# EAGLE library part XC3SE500-FG320 (library Xilinx)
* Xilinx Spartan 3E 500 die in a FG320 package
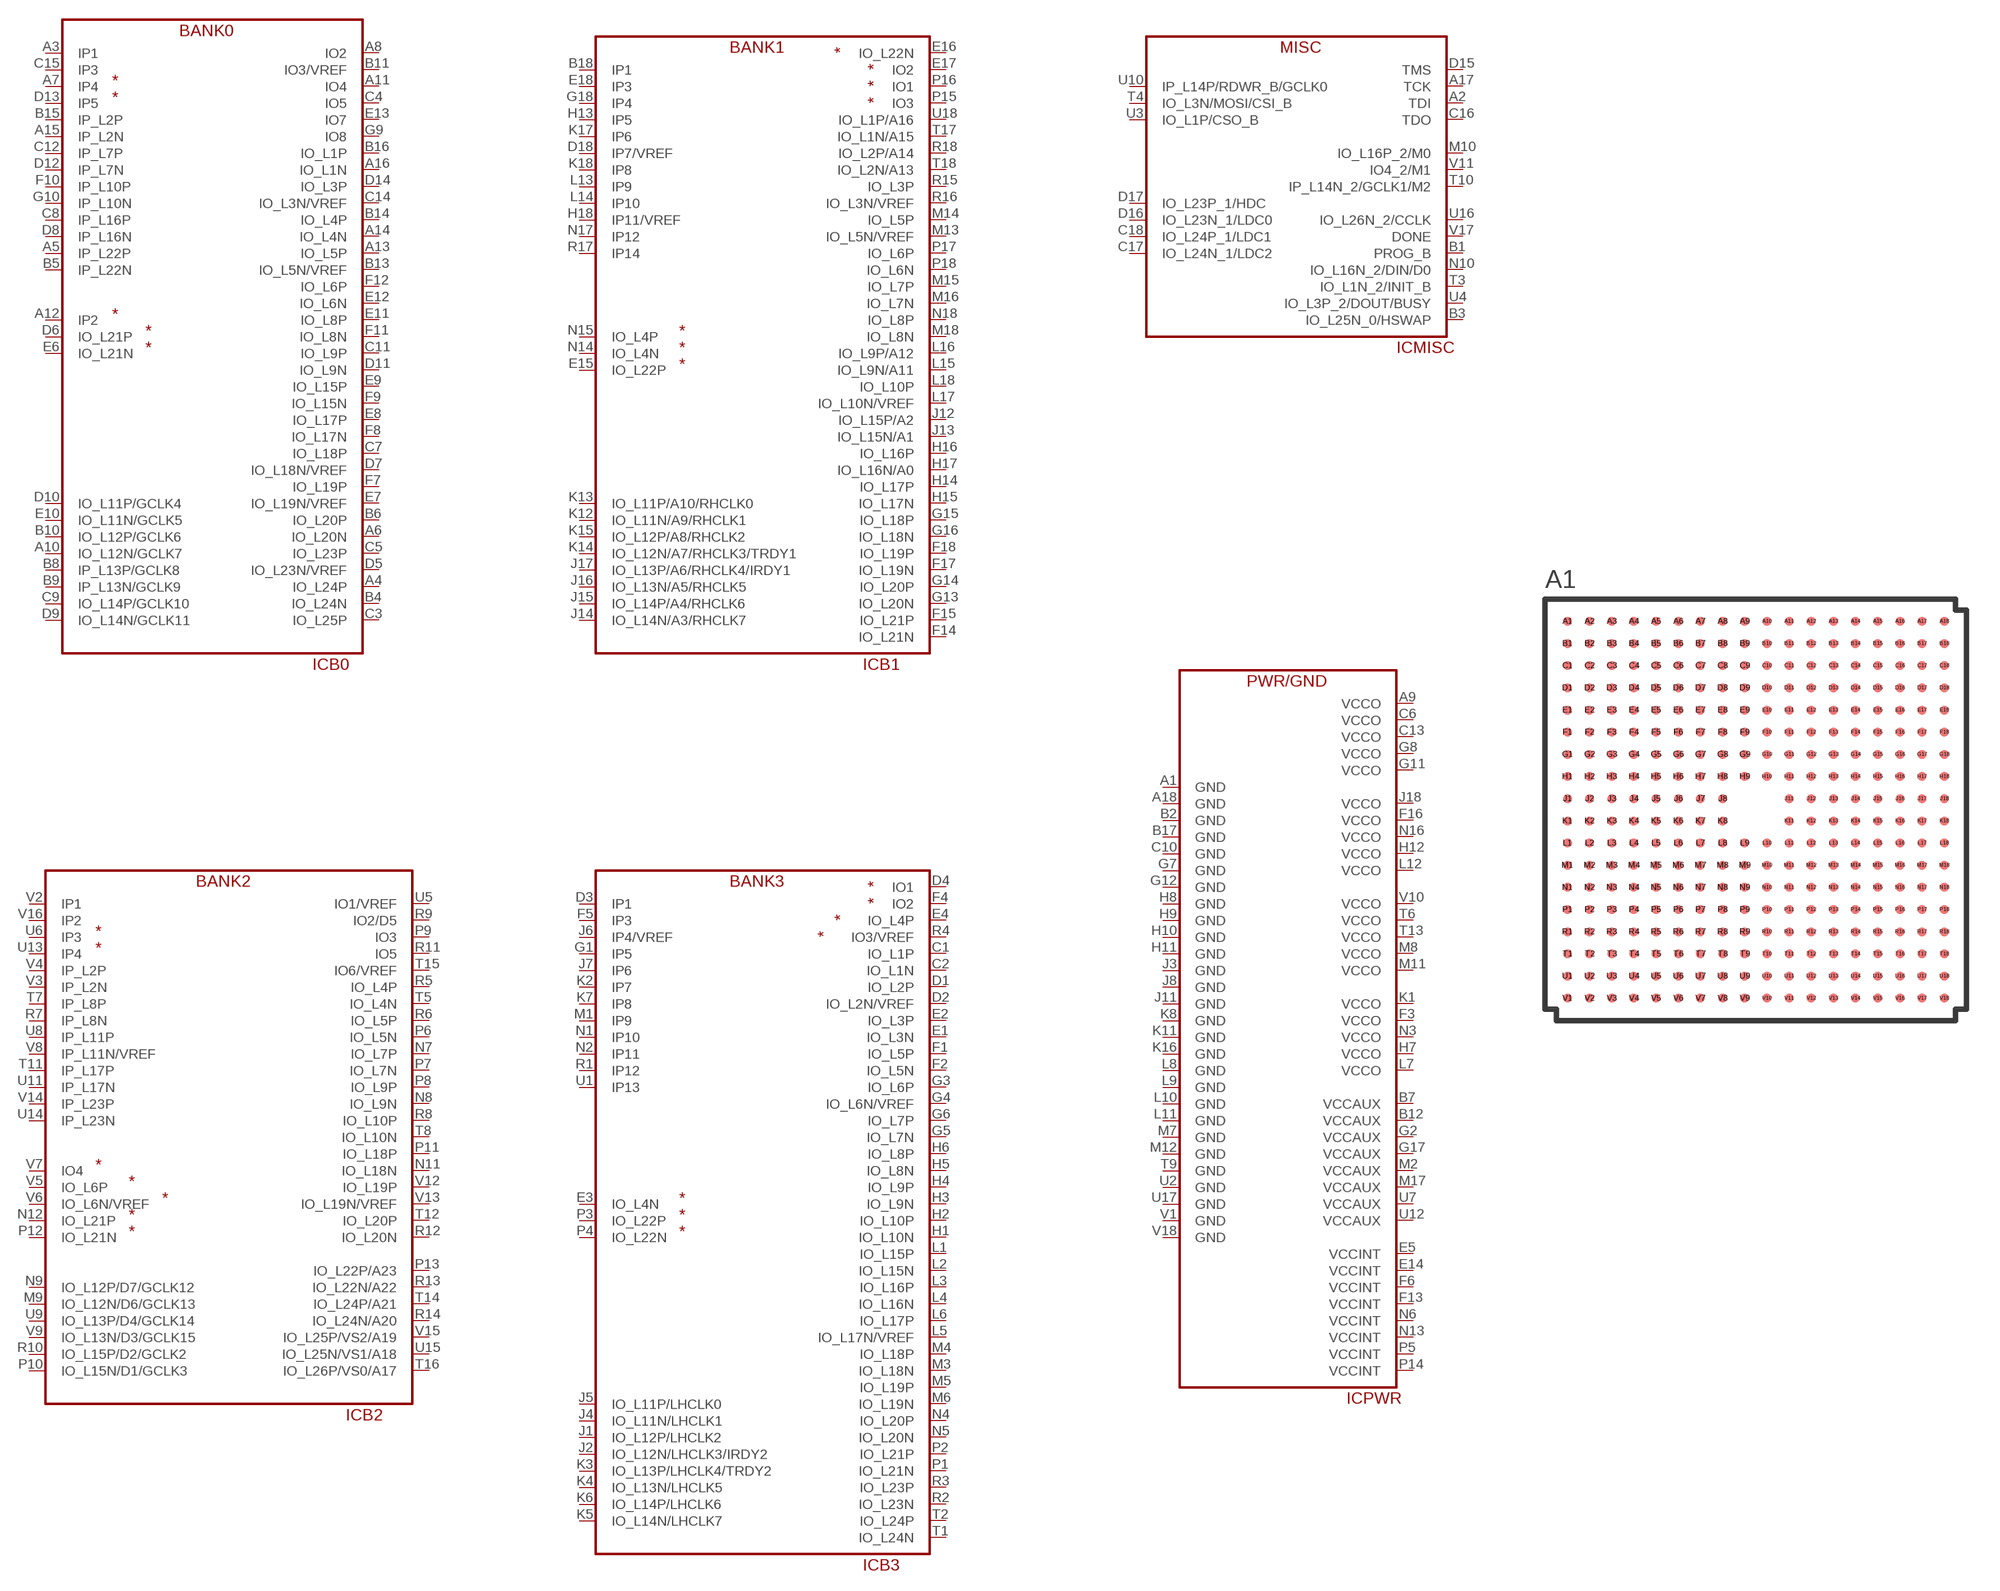
[diagram p35: symbol with the pads of FG320; footprint FG320]

Designator prefix IC; gates B0=XC3S500E/FG320-B0 B1=XC3S500E/FG320-B1 B2=XC3S500E/FG320-B2 B3=XC3S500E/FG320-B3 MISC=XC3S500E/FG320-MISC PWR=XC3S500E/FG320-PWR

## XC3SE500-FG320  [FG320]
A1  PWR:GND  pwr
A2  MISC:TDI
A3  B0:IP1  in
A4  B0:IO_L24P
A5  B0:IP_L22P  in
A6  B0:IO_L20N
A7  B0:IP4  in
A8  B0:IO2
A9  PWR:VCCO  pwr
A10  B0:IO_L12N/GCLK7
A11  B0:IO4
A12  B0:IP2  in
A13  B0:IO_L5P
A14  B0:IO_L4N
A15  B0:IP_L2N  in
A16  B0:IO_L1N
A17  MISC:TCK
A18  PWR:GND  pwr
B1  MISC:PROG_B
B2  PWR:GND  pwr
B3  MISC:IO_L25N_0/HSWAP
B4  B0:IO_L24N
B5  B0:IP_L22N  in
B6  B0:IO_L20P
B7  PWR:VCCAUX  pwr
B8  B0:IP_L13P/GCLK8  in
B9  B0:IP_L13N/GCLK9  in
B10  B0:IO_L12P/GCLK6
B11  B0:IO3/VREF
B12  PWR:VCCAUX  pwr
B13  B0:IO_L5N/VREF
B14  B0:IO_L4P
B15  B0:IP_L2P  in
B16  B0:IO_L1P
B17  PWR:GND  pwr
B18  B1:IP1  in
C1  B3:IO_L1P
C2  B3:IO_L1N
C3  B0:IO_L25P
C4  B0:IO5
C5  B0:IO_L23P
C6  PWR:VCCO  pwr
C7  B0:IO_L18P
C8  B0:IP_L16P  in
C9  B0:IO_L14P/GCLK10
C10  PWR:GND  pwr
C11  B0:IO_L9P
C12  B0:IP_L7P  in
C13  PWR:VCCO  pwr
C14  B0:IO_L3N/VREF
C15  B0:IP3  in
C16  MISC:TDO
C17  MISC:IO_L24N_1/LDC2
C18  MISC:IO_L24P_1/LDC1
D1  B3:IO_L2P
D2  B3:IO_L2N/VREF
D3  B3:IP1  in
D4  B3:IO1
D5  B0:IO_L23N/VREF
D6  B0:IO_L21P
D7  B0:IO_L18N/VREF
D8  B0:IP_L16N  in
D9  B0:IO_L14N/GCLK11
D10  B0:IO_L11P/GCLK4
D11  B0:IO_L9N
D12  B0:IP_L7N  in
D13  B0:IP5  in
D14  B0:IO_L3P
D15  MISC:TMS
D16  MISC:IO_L23N_1/LDC0
D17  MISC:IO_L23P_1/HDC
D18  B1:IP7/VREF  in
E1  B3:IO_L3N
E2  B3:IO_L3P
E3  B3:IO_L4N
E4  B3:IO_L4P
E5  PWR:VCCINT  pwr
E6  B0:IO_L21N
E7  B0:IO_L19N/VREF
E8  B0:IO_L17P
E9  B0:IO_L15P
E10  B0:IO_L11N/GCLK5
E11  B0:IO_L8P
E12  B0:IO_L6N
E13  B0:IO7
E14  PWR:VCCINT  pwr
E15  B1:IO_L22P
E16  B1:IO_L22N
E17  B1:IO2
E18  B1:IP3  in
F1  B3:IO_L5P
F2  B3:IO_L5N
F3  PWR:VCCO  pwr
F4  B3:IO2  in
F5  B3:IP3  in
F6  PWR:VCCINT  pwr
F7  B0:IO_L19P
F8  B0:IO_L17N
F9  B0:IO_L15N
F10  B0:IP_L10P  in
F11  B0:IO_L8N
F12  B0:IO_L6P
F13  PWR:VCCINT  pwr
F14  B1:IO_L21N
F15  B1:IO_L21P
F16  PWR:VCCO  pwr
F17  B1:IO_L19N
F18  B1:IO_L19P
G1  B3:IP5  in
G2  PWR:VCCAUX  pwr
G3  B3:IO_L6P
G4  B3:IO_L6N/VREF
G5  B3:IO_L7N
G6  B3:IO_L7P
G7  PWR:GND  pwr
G8  PWR:VCCO  pwr
G9  B0:IO8
G10  B0:IP_L10N  in
G11  PWR:VCCO  pwr
G12  PWR:GND  pwr
G13  B1:IO_L20N
G14  B1:IO_L20P
G15  B1:IO_L18P
G16  B1:IO_L18N
G17  PWR:VCCAUX  pwr
G18  B1:IP4  in
H1  B3:IO_L10N
H2  B3:IO_L10P
H3  B3:IO_L9N
H4  B3:IO_L9P
H5  B3:IO_L8N
H6  B3:IO_L8P
H7  PWR:VCCO  pwr
H8  PWR:GND  pwr
H9  PWR:GND  pwr
H10  PWR:GND  pwr
H11  PWR:GND  pwr
H12  PWR:VCCO  pwr
H13  B1:IP5  in
H14  B1:IO_L17P
H15  B1:IO_L17N
H16  B1:IO_L16P
H17  B1:IO_L16N/A0
H18  B1:IP11/VREF  in
J1  B3:IO_L12P/LHCLK2
J2  B3:IO_L12N/LHCLK3/IRDY2
J3  PWR:GND  pwr
J4  B3:IO_L11N/LHCLK1
J5  B3:IO_L11P/LHCLK0
J6  B3:IP4/VREF  in
J7  B3:IP6  in
J8  PWR:GND  pwr
J11  PWR:GND  pwr
J12  B1:IO_L15P/A2
J13  B1:IO_L15N/A1
J14  B1:IO_L14N/A3/RHCLK7
J15  B1:IO_L14P/A4/RHCLK6
J16  B1:IO_L13N/A5/RHCLK5
J17  B1:IO_L13P/A6/RHCLK4/IRDY1
J18  PWR:VCCO  pwr
K1  PWR:VCCO  pwr
K2  B3:IP7  in
K3  B3:IO_L13P/LHCLK4/TRDY2
K4  B3:IO_L13N/LHCLK5
K5  B3:IO_L14N/LHCLK7
K6  B3:IO_L14P/LHCLK6
K7  B3:IP8  in
K8  PWR:GND  pwr
K11  PWR:GND  pwr
K12  B1:IO_L11N/A9/RHCLK1
K13  B1:IO_L11P/A10/RHCLK0
K14  B1:IO_L12N/A7/RHCLK3/TRDY1
K15  B1:IO_L12P/A8/RHCLK2
K16  PWR:GND  pwr
K17  B1:IP6  in
K18  B1:IP8  in
L1  B3:IO_L15P
L2  B3:IO_L15N
L3  B3:IO_L16P
L4  B3:IO_L16N
L5  B3:IO_L17N/VREF
L6  B3:IO_L17P
L7  PWR:VCCO  pwr
L8  PWR:GND  pwr
L9  PWR:GND  pwr
L10  PWR:GND  pwr
L11  PWR:GND  pwr
L12  PWR:VCCO  pwr
L13  B1:IP9  in
L14  B1:IP10  in
L15  B1:IO_L9N/A11
L16  B1:IO_L9P/A12
L17  B1:IO_L10N/VREF
L18  B1:IO_L10P
M1  B3:IP9  in
M2  PWR:VCCAUX  pwr
M3  B3:IO_L18N
M4  B3:IO_L18P
M5  B3:IO_L19P
M6  B3:IO_L19N
M7  PWR:GND  pwr
M8  PWR:VCCO  pwr
M9  B2:IO_L12N/D6/GCLK13
M10  MISC:IO_L16P_2/M0
M11  PWR:VCCO  pwr
M12  PWR:GND  pwr
M13  B1:IO_L5N/VREF
M14  B1:IO_L5P
M15  B1:IO_L7P
M16  B1:IO_L7N
M17  PWR:VCCAUX  pwr
M18  B1:IO_L8N
N1  B3:IP10  in
N2  B3:IP11  in
N3  PWR:VCCO  pwr
N4  B3:IO_L20P
N5  B3:IO_L20N
N6  PWR:VCCINT  pwr
N7  B2:IO_L7P
N8  B2:IO_L9N
N9  B2:IO_L12P/D7/GCLK12
N10  MISC:IO_L16N_2/DIN/D0
N11  B2:IO_L18N
N12  B2:IO_L21P
N13  PWR:VCCINT  pwr
N14  B1:IO_L4N
N15  B1:IO_L4P
N16  PWR:VCCO  pwr
N17  B1:IP12  in
N18  B1:IO_L8P
P1  B3:IO_L21N
P2  B3:IO_L21P
P3  B3:IO_L22P
P4  B3:IO_L22N
P5  PWR:VCCINT  pwr
P6  B2:IO_L5N
P7  B2:IO_L7N
P8  B2:IO_L9P
P9  B2:IO3
P10  B2:IO_L15N/D1/GCLK3
P11  B2:IO_L18P
P12  B2:IO_L21N
P13  B2:IO_L22P/A23
P14  PWR:VCCINT  pwr
P15  B1:IO3
P16  B1:IO1
P17  B1:IO_L6P
P18  B1:IO_L6N
R1  B3:IP12  in
R2  B3:IO_L23N
R3  B3:IO_L23P
R4  B3:IO3/VREF  in
R5  B2:IO_L4P
R6  B2:IO_L5P
R7  B2:IP_L8N  in
R8  B2:IO_L10P
R9  B2:IO2/D5
R10  B2:IO_L15P/D2/GCLK2
R11  B2:IO5
R12  B2:IO_L20N
R13  B2:IO_L22N/A22
R14  B2:IO_L24N/A20
R15  B1:IO_L3P
R16  B1:IO_L3N/VREF
R17  B1:IP14  in
R18  B1:IO_L2P/A14
T1  B3:IO_L24N
T2  B3:IO_L24P
T3  MISC:IO_L1N_2/INIT_B
T4  MISC:IO_L3N/MOSI/CSI_B
T5  B2:IO_L4N
T6  PWR:VCCO  pwr
T7  B2:IP_L8P  in
T8  B2:IO_L10N
T9  PWR:GND  pwr
T10  MISC:IP_L14N_2/GCLK1/M2
T11  B2:IP_L17P  in
T12  B2:IO_L20P
T13  PWR:VCCO  pwr
T14  B2:IO_L24P/A21
T15  B2:IO6/VREF
T16  B2:IO_L26P/VS0/A17
T17  B1:IO_L1N/A15
T18  B1:IO_L2N/A13
U1  B3:IP13  in
U2  PWR:GND  pwr
U3  MISC:IO_L1P/CSO_B
U4  MISC:IO_L3P_2/DOUT/BUSY
U5  B2:IO1/VREF
U6  B2:IP3  in
U7  PWR:VCCAUX  pwr
U8  B2:IP_L11P  in
U9  B2:IO_L13P/D4/GCLK14
U10  MISC:IP_L14P/RDWR_B/GCLK0  in
U11  B2:IP_L17N  in
U12  PWR:VCCAUX  pwr
U13  B2:IP4  in
U14  B2:IP_L23N  in
U15  B2:IO_L25N/VS1/A18
U16  MISC:IO_L26N_2/CCLK
U17  PWR:GND  pwr
U18  B1:IO_L1P/A16
V1  PWR:GND  pwr
V2  B2:IP1  in
V3  B2:IP_L2N  in
V4  B2:IP_L2P  in
V5  B2:IO_L6P
V6  B2:IO_L6N/VREF
V7  B2:IO4
V8  B2:IP_L11N/VREF  in
V9  B2:IO_L13N/D3/GCLK15
V10  PWR:VCCO  pwr
V11  MISC:IO4_2/M1
V12  B2:IO_L19P
V13  B2:IO_L19N/VREF
V14  B2:IP_L23P  in
V15  B2:IO_L25P/VS2/A19
V16  B2:IP2  in
V17  MISC:DONE
V18  PWR:GND  pwr

## Footprint FG320 (pad centres in mm)
320-Ball Fine-pitch BGA (FG320/FGG320) package
smd 0.4 x 0.4: A1 -8.5,8.5; A2 -7.5,8.5; A3 -6.5,8.5; A4 -5.5,8.5; A5 -4.5,8.5; A6 -3.5,8.5; A7 -2.5,8.5; A8 -1.5,8.5; A9 -0.5,8.5; A10 0.5,8.5; A11 1.5,8.5; A12 2.5,8.5; A13 3.5,8.5; A14 4.5,8.5; A15 5.5,8.5; A16 6.5,8.5; A17 7.5,8.5; A18 8.5,8.5; B1 -8.5,7.5; B2 -7.5,7.5; B3 -6.5,7.5; B4 -5.5,7.5; B5 -4.5,7.5; B6 -3.5,7.5; B7 -2.5,7.5; B8 -1.5,7.5; B9 -0.5,7.5; B10 0.5,7.5; B11 1.5,7.5; B12 2.5,7.5; B13 3.5,7.5; B14 4.5,7.5; B15 5.5,7.5; B16 6.5,7.5; B17 7.5,7.5; B18 8.5,7.5; C1 -8.5,6.5; C2 -7.5,6.5; C3 -6.5,6.5; C4 -5.5,6.5; C5 -4.5,6.5; C6 -3.5,6.5; C7 -2.5,6.5; C8 -1.5,6.5; C9 -0.5,6.5; C10 0.5,6.5; C11 1.5,6.5; C12 2.5,6.5; C13 3.5,6.5; C14 4.5,6.5; C15 5.5,6.5; C16 6.5,6.5; C17 7.5,6.5; C18 8.5,6.5; D1 -8.5,5.5; D2 -7.5,5.5; D3 -6.5,5.5; D4 -5.5,5.5; D5 -4.5,5.5; D6 -3.5,5.5; D7 -2.5,5.5; D8 -1.5,5.5; D9 -0.5,5.5; D10 0.5,5.5; D11 1.5,5.5; D12 2.5,5.5; D13 3.5,5.5; D14 4.5,5.5; D15 5.5,5.5; D16 6.5,5.5; D17 7.5,5.5; D18 8.5,5.5; E1 -8.5,4.5; E2 -7.5,4.5; E3 -6.5,4.5; E4 -5.5,4.5; E5 -4.5,4.5; E6 -3.5,4.5; E7 -2.5,4.5; E8 -1.5,4.5; E9 -0.5,4.5; E10 0.5,4.5; E11 1.5,4.5; E12 2.5,4.5; E13 3.5,4.5; E14 4.5,4.5; E15 5.5,4.5; E16 6.5,4.5; E17 7.5,4.5; E18 8.5,4.5; F1 -8.5,3.5; F2 -7.5,3.5; F3 -6.5,3.5; F4 -5.5,3.5; F5 -4.5,3.5; F6 -3.5,3.5; F7 -2.5,3.5; F8 -1.5,3.5; F9 -0.5,3.5; F10 0.5,3.5; F11 1.5,3.5; F12 2.5,3.5; F13 3.5,3.5; F14 4.5,3.5; F15 5.5,3.5; F16 6.5,3.5; F17 7.5,3.5; F18 8.5,3.5; G1 -8.5,2.5; G2 -7.5,2.5; G3 -6.5,2.5; G4 -5.5,2.5; G5 -4.5,2.5; G6 -3.5,2.5; G7 -2.5,2.5; G8 -1.5,2.5; G9 -0.5,2.5; G10 0.5,2.5; G11 1.5,2.5; G12 2.5,2.5; G13 3.5,2.5; G14 4.5,2.5; G15 5.5,2.5; G16 6.5,2.5; G17 7.5,2.5; G18 8.5,2.5; H1 -8.5,1.5; H2 -7.5,1.5; H3 -6.5,1.5; H4 -5.5,1.5; H5 -4.5,1.5; H6 -3.5,1.5; H7 -2.5,1.5; H8 -1.5,1.5; H9 -0.5,1.5; H10 0.5,1.5; H11 1.5,1.5; H12 2.5,1.5; H13 3.5,1.5; H14 4.5,1.5; H15 5.5,1.5; H16 6.5,1.5; H17 7.5,1.5; H18 8.5,1.5; J1 -8.5,0.5; J2 -7.5,0.5; J3 -6.5,0.5; J4 -5.5,0.5; J5 -4.5,0.5; J6 -3.5,0.5; J7 -2.5,0.5; J8 -1.5,0.5; J11 1.5,0.5; J12 2.5,0.5; J13 3.5,0.5; J14 4.5,0.5; J15 5.5,0.5; J16 6.5,0.5; J17 7.5,0.5; J18 8.5,0.5; K1 -8.5,-0.5; K2 -7.5,-0.5; K3 -6.5,-0.5; K4 -5.5,-0.5; K5 -4.5,-0.5; K6 -3.5,-0.5; K7 -2.5,-0.5; K8 -1.5,-0.5; K11 1.5,-0.5; K12 2.5,-0.5; K13 3.5,-0.5; K14 4.5,-0.5; K15 5.5,-0.5; K16 6.5,-0.5; K17 7.5,-0.5; K18 8.5,-0.5; L1 -8.5,-1.5; L2 -7.5,-1.5; L3 -6.5,-1.5; L4 -5.5,-1.5; L5 -4.5,-1.5; L6 -3.5,-1.5; L7 -2.5,-1.5; L8 -1.5,-1.5; L9 -0.5,-1.5; L10 0.5,-1.5; L11 1.5,-1.5; L12 2.5,-1.5; L13 3.5,-1.5; L14 4.5,-1.5; L15 5.5,-1.5; L16 6.5,-1.5; L17 7.5,-1.5; L18 8.5,-1.5; M1 -8.5,-2.5; M2 -7.5,-2.5; M3 -6.5,-2.5; M4 -5.5,-2.5; M5 -4.5,-2.5; M6 -3.5,-2.5; M7 -2.5,-2.5; M8 -1.5,-2.5; M9 -0.5,-2.5; M10 0.5,-2.5; M11 1.5,-2.5; M12 2.5,-2.5; M13 3.5,-2.5; M14 4.5,-2.5; M15 5.5,-2.5; M16 6.5,-2.5; M17 7.5,-2.5; M18 8.5,-2.5; N1 -8.5,-3.5; N2 -7.5,-3.5; N3 -6.5,-3.5; N4 -5.5,-3.5; N5 -4.5,-3.5; N6 -3.5,-3.5; N7 -2.5,-3.5; N8 -1.5,-3.5; N9 -0.5,-3.5; N10 0.5,-3.5; N11 1.5,-3.5; N12 2.5,-3.5; N13 3.5,-3.5; N14 4.5,-3.5; N15 5.5,-3.5; N16 6.5,-3.5; N17 7.5,-3.5; N18 8.5,-3.5; P1 -8.5,-4.5; P2 -7.5,-4.5; P3 -6.5,-4.5; P4 -5.5,-4.5; P5 -4.5,-4.5; P6 -3.5,-4.5; P7 -2.5,-4.5; P8 -1.5,-4.5; P9 -0.5,-4.5; P10 0.5,-4.5; P11 1.5,-4.5; P12 2.5,-4.5; P13 3.5,-4.5; P14 4.5,-4.5; P15 5.5,-4.5; P16 6.5,-4.5; P17 7.5,-4.5; P18 8.5,-4.5; R1 -8.5,-5.5; R2 -7.5,-5.5; R3 -6.5,-5.5; R4 -5.5,-5.5; R5 -4.5,-5.5; R6 -3.5,-5.5; R7 -2.5,-5.5; R8 -1.5,-5.5; R9 -0.5,-5.5; R10 0.5,-5.5; R11 1.5,-5.5; R12 2.5,-5.5; R13 3.5,-5.5; R14 4.5,-5.5; R15 5.5,-5.5; R16 6.5,-5.5; R17 7.5,-5.5; R18 8.5,-5.5; T1 -8.5,-6.5; T2 -7.5,-6.5; T3 -6.5,-6.5; T4 -5.5,-6.5; T5 -4.5,-6.5; T6 -3.5,-6.5; T7 -2.5,-6.5; T8 -1.5,-6.5; T9 -0.5,-6.5; T10 0.5,-6.5; T11 1.5,-6.5; T12 2.5,-6.5; T13 3.5,-6.5; T14 4.5,-6.5; T15 5.5,-6.5; T16 6.5,-6.5; T17 7.5,-6.5; T18 8.5,-6.5; U1 -8.5,-7.5; U2 -7.5,-7.5; U3 -6.5,-7.5; U4 -5.5,-7.5; U5 -4.5,-7.5; U6 -3.5,-7.5; U7 -2.5,-7.5; U8 -1.5,-7.5; U9 -0.5,-7.5; U10 0.5,-7.5; U11 1.5,-7.5; U12 2.5,-7.5; U13 3.5,-7.5; U14 4.5,-7.5; U15 5.5,-7.5; U16 6.5,-7.5; U17 7.5,-7.5; U18 8.5,-7.5; V1 -8.5,-8.5; V2 -7.5,-8.5; V3 -6.5,-8.5; V4 -5.5,-8.5; V5 -4.5,-8.5; V6 -3.5,-8.5; V7 -2.5,-8.5; V8 -1.5,-8.5; V9 -0.5,-8.5; V10 0.5,-8.5; V11 1.5,-8.5; V12 2.5,-8.5; V13 3.5,-8.5; V14 4.5,-8.5; V15 5.5,-8.5; V16 6.5,-8.5; V17 7.5,-8.5; V18 8.5,-8.5